# Altium schematic symbol library WS-DISV.SchLib: 31 symbols
Pins are listed as number, name and electrical type; pins without a type are passive.

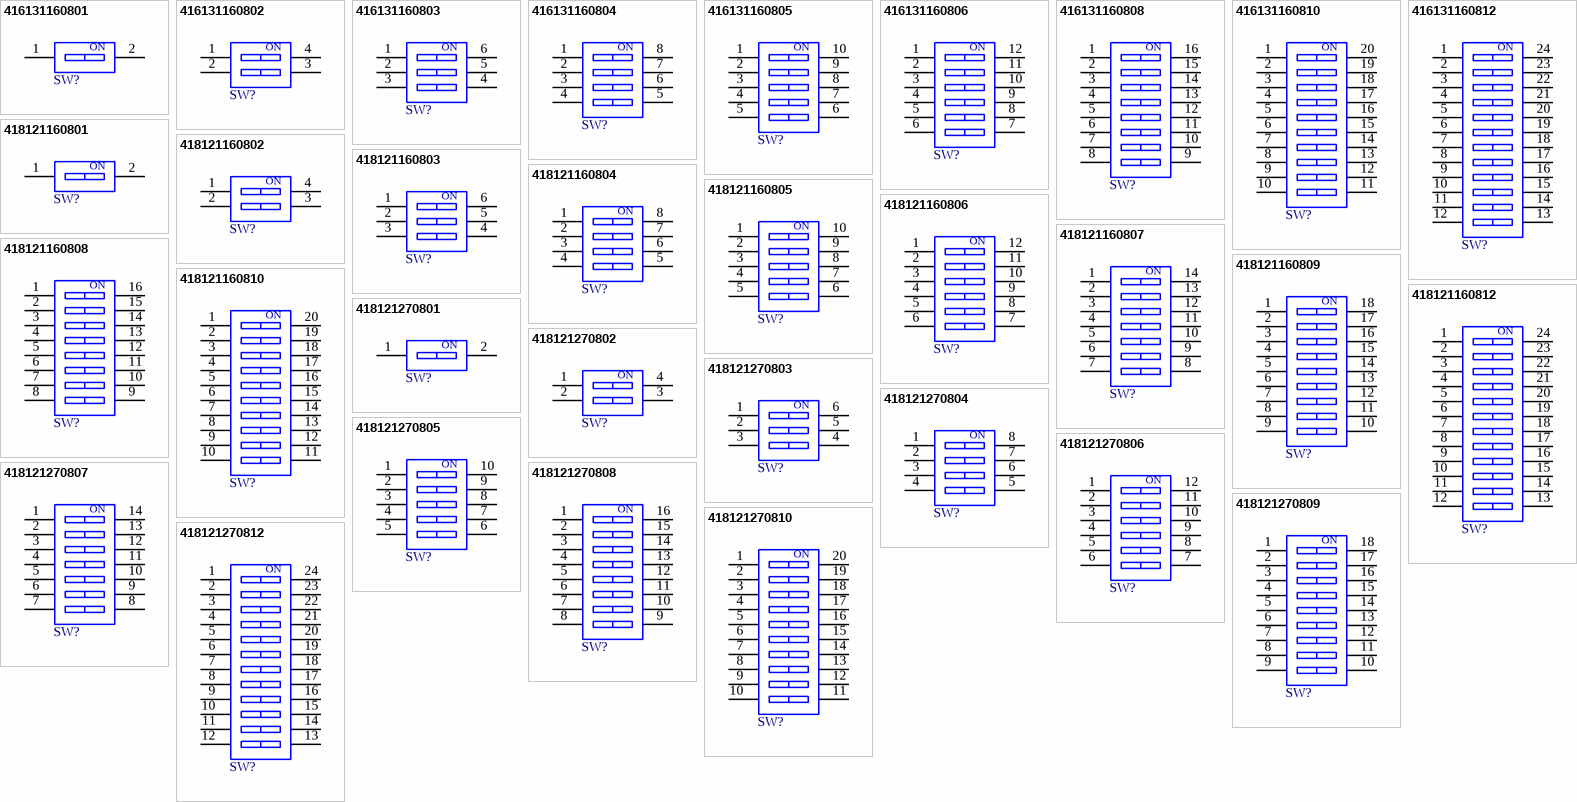
[diagram p0: symbols 416131160801 to 418121270812]

## 416131160801
designator SW?  (value not drawn)
WS-DISV Small Compact SMD Dip Switch, Flat Actuator with Top Tape, pitch 1.27mm, 1p; Manufacturer: Wurth Elektronik; Actuator Type: Flat Type; Operation Force: 500g; Rated Current Non-Switching: 100mA; Rated Current Switching: 25mA; Rated Voltage Non-Switching: 50VDC; Rated Voltage Switching: 24VDC; Number of Poles: 1; ComponentLink1Description: Website Link; ComponentLink1URL: https://www.we-online.com/redexpert/article/416131160801?ad; ComponentLink2Description: Datasheet Link; ComponentLink2URL: https://www.we-online.com/redexpert/spec/416131160801?ad; Manufacturer Part Number: 416131160801; Category: Dip Switches; Match Code: WS-DISV; Mount: Surface Mount; Operating Temperature Max: 85°C; Operating Temperature Min: -40°C; Packaging: Tape and Reel; Contact Material: Copper Alloy; Contact Plating: Gold; Pitch: 1.27mm
footprint 416131160801
pins: 1, 2
text: ON

## 416131160802
designator SW?  (value not drawn)
WS-DISV Small Compact SMD Dip Switch, Flat Actuator with Top Tape, pitch 1.27mm, 2p; Manufacturer: Wurth Elektronik; Actuator Type: Flat Type; Operation Force: 500g; Rated Current Non-Switching: 100mA; Rated Current Switching: 25mA; Rated Voltage Non-Switching: 50VDC; Rated Voltage Switching: 24VDC; Number of Poles: 2; ComponentLink1Description: Website Link; ComponentLink1URL: https://www.we-online.com/redexpert/article/416131160802?ad; ComponentLink2Description: Datasheet Link; ComponentLink2URL: https://www.we-online.com/redexpert/spec/416131160802?ad; Manufacturer Part Number: 416131160802; Category: Dip Switches; Match Code: WS-DISV; Mount: Surface Mount; Operating Temperature Max: 85°C; Operating Temperature Min: -40°C; Packaging: Tape and Reel; Contact Material: Copper Alloy; Contact Plating: Gold; Pitch: 1.27mm
footprint 416131160802
pins: 1, 2, 3, 4
text: ON

## 416131160803
designator SW?  (value not drawn)
WS-DISV Small Compact SMD Dip Switch, Flat Actuator with Top Tape, pitch 1.27mm, 3p; Manufacturer: Wurth Elektronik; Actuator Type: Flat Type; Operation Force: 500g; Rated Current Non-Switching: 100mA; Rated Current Switching: 25mA; Rated Voltage Non-Switching: 50VDC; Rated Voltage Switching: 24VDC; Number of Poles: 3; ComponentLink1Description: Website Link; ComponentLink1URL: https://www.we-online.com/redexpert/article/416131160803?ad; ComponentLink2Description: Datasheet Link; ComponentLink2URL: https://www.we-online.com/redexpert/spec/416131160803?ad; Manufacturer Part Number: 416131160803; Category: Dip Switches; Match Code: WS-DISV; Mount: Surface Mount; Operating Temperature Max: 85°C; Operating Temperature Min: -40°C; Packaging: Tape and Reel; Contact Material: Copper Alloy; Contact Plating: Gold; Pitch: 1.27mm
footprint 416131160803
pins: 1, 2, 3, 4, 5, 6
text: ON

## 416131160804
designator SW?  (value not drawn)
WS-DISV Small Compact SMD Dip Switch, Flat Actuator with Top Tape, pitch 1.27mm, 4p; Manufacturer: Wurth Elektronik; Actuator Type: Flat Type; Operation Force: 500g; Rated Current Non-Switching: 100mA; Rated Current Switching: 25mA; Rated Voltage Non-Switching: 50VDC; Rated Voltage Switching: 24VDC; Number of Poles: 4; ComponentLink1Description: Website Link; ComponentLink1URL: https://www.we-online.com/redexpert/article/416131160804?ad; ComponentLink2Description: Datasheet Link; ComponentLink2URL: https://www.we-online.com/redexpert/spec/416131160804?ad; Manufacturer Part Number: 416131160804; Category: Dip Switches; Match Code: WS-DISV; Mount: Surface Mount; Operating Temperature Max: 85°C; Operating Temperature Min: -40°C; Packaging: Tape and Reel; Contact Material: Copper Alloy; Contact Plating: Gold; Pitch: 1.27mm
footprint 416131160804
pins: 1, 2, 3, 4, 5, 6, 7, 8
text: ON

## 416131160805
designator SW?  (value not drawn)
WS-DISV Small Compact SMD Dip Switch, Flat Actuator with Top Tape, pitch 1.27mm, 5p; Manufacturer: Wurth Elektronik; Actuator Type: Flat Type; Operation Force: 500g; Rated Current Non-Switching: 100mA; Rated Current Switching: 25mA; Rated Voltage Non-Switching: 50VDC; Rated Voltage Switching: 24VDC; Number of Poles: 5; ComponentLink1Description: Website Link; ComponentLink1URL: https://www.we-online.com/redexpert/article/416131160805?ad; ComponentLink2Description: Datasheet Link; ComponentLink2URL: https://www.we-online.com/redexpert/spec/416131160805?ad; Manufacturer Part Number: 416131160805; Category: Dip Switches; Match Code: WS-DISV; Mount: Surface Mount; Operating Temperature Max: 85°C; Operating Temperature Min: -40°C; Packaging: Tape and Reel; Contact Material: Copper Alloy; Contact Plating: Gold; Pitch: 1.27mm
footprint 416131160805
pins: 1, 2, 3, 4, 5, 6, 7, 8, 9, 10
text: ON

## 416131160806
designator SW?  (value not drawn)
WS-DISV Small Compact SMD Dip Switch, Flat Actuator with Top Tape, pitch 1.27mm, 6p; Manufacturer: Wurth Elektronik; Actuator Type: Flat Type; Operation Force: 500g; Rated Current Non-Switching: 100mA; Rated Current Switching: 25mA; Rated Voltage Non-Switching: 50VDC; Rated Voltage Switching: 24VDC; Number of Poles: 6; ComponentLink1Description: Website Link; ComponentLink1URL: https://www.we-online.com/redexpert/article/416131160806?ad; ComponentLink2Description: Datasheet Link; ComponentLink2URL: https://www.we-online.com/redexpert/spec/416131160806?ad; Manufacturer Part Number: 416131160806; Category: Dip Switches; Match Code: WS-DISV; Mount: Surface Mount; Operating Temperature Max: 85°C; Operating Temperature Min: -40°C; Packaging: Tape and Reel; Contact Material: Copper Alloy; Contact Plating: Gold; Pitch: 1.27mm
footprint 416131160806
pins: 1, 2, 3, 4, 5, 6, 7, 8, 9, 10, 11, 12
text: ON

## 416131160808
designator SW?  (value not drawn)
WS-DISV Small Compact SMD Dip Switch, Flat Actuator with Top Tape, pitch 1.27mm, 8p; Manufacturer: Wurth Elektronik; Actuator Type: Flat Type; Operation Force: 500g; Rated Current Non-Switching: 100mA; Rated Current Switching: 25mA; Rated Voltage Non-Switching: 50VDC; Rated Voltage Switching: 24VDC; Number of Poles: 8; ComponentLink1Description: Website Link; ComponentLink1URL: https://www.we-online.com/redexpert/article/416131160808?ad; ComponentLink2Description: Datasheet Link; ComponentLink2URL: https://www.we-online.com/redexpert/spec/416131160808?ad; Manufacturer Part Number: 416131160808; Category: Dip Switches; Match Code: WS-DISV; Mount: Surface Mount; Operating Temperature Max: 85°C; Operating Temperature Min: -40°C; Packaging: Tape and Reel; Contact Material: Copper Alloy; Contact Plating: Gold; Pitch: 1.27mm
footprint 416131160808
pins: 1, 2, 3, 4, 5, 6, 7, 8, 9, 10, 11, 12, 13, 14, 15, 16
text: ON

## 416131160810
designator SW?  (value not drawn)
WS-DISV Small Compact SMD Dip Switch, Flat Actuator with Top Tape, pitch 1.27mm, 10p; Manufacturer: Wurth Elektronik; Actuator Type: Flat Type; Operation Force: 500g; Rated Current Non-Switching: 100mA; Rated Current Switching: 25mA; Rated Voltage Non-Switching: 50VDC; Rated Voltage Switching: 24VDC; Number of Poles: 10; ComponentLink1Description: Website Link; ComponentLink1URL: https://www.we-online.com/redexpert/article/416131160810?ad; ComponentLink2Description: Datasheet Link; ComponentLink2URL: https://www.we-online.com/redexpert/spec/416131160810?ad; Manufacturer Part Number: 416131160810; Category: Dip Switches; Match Code: WS-DISV; Mount: Surface Mount; Operating Temperature Max: 85°C; Operating Temperature Min: -40°C; Packaging: Tape and Reel; Contact Material: Copper Alloy; Contact Plating: Gold; Pitch: 1.27mm
footprint 416131160810
pins: 1, 2, 3, 4, 5, 6, 7, 8, 9, 10, 11, 12, 13, 14, 15, 16, 17, 18, 19, 20
text: ON

## 416131160812
designator SW?  (value not drawn)
WS-DISV Small Compact SMD Dip Switch, Flat Actuator with Top Tape, pitch 1.27mm, 12p; Manufacturer: Wurth Elektronik; Actuator Type: Flat Type; Operation Force: 500g; Rated Current Non-Switching: 100mA; Rated Current Switching: 25mA; Rated Voltage Non-Switching: 50VDC; Rated Voltage Switching: 24VDC; Number of Poles: 12; ComponentLink1Description: Website Link; ComponentLink1URL: https://www.we-online.com/redexpert/article/416131160812?ad; ComponentLink2Description: Datasheet Link; ComponentLink2URL: https://www.we-online.com/redexpert/spec/416131160812?ad; Manufacturer Part Number: 416131160812; Category: Dip Switches; Match Code: WS-DISV; Mount: Surface Mount; Operating Temperature Max: 85°C; Operating Temperature Min: -40°C; Packaging: Tape and Reel; Contact Material: Copper Alloy; Contact Plating: Gold; Pitch: 1.27mm
footprint 416131160812
pins: 1, 2, 3, 4, 5, 6, 7, 8, 9, 10, 11, 12, 13, 14, 15, 16, 17, 18, 19, 20, 21, 22, 23, 24
text: ON

## 418121160801
designator SW?  (value not drawn)
WS-DISV Small Compact SMD Dip Switch, Flat Actuator with Top Tape, pitch 2.54mm, 1p; Manufacturer: Wurth Elektronik; Actuator Type: Flat Type; Operation Force: 600g; Rated Current Non-Switching: 100mA; Rated Current Switching: 25mA; Rated Voltage Non-Switching: 50VDC; Rated Voltage Switching: 24VDC; Number of Poles: 1; ComponentLink1Description: Website Link; ComponentLink1URL: https://www.we-online.com/redexpert/article/418121160801?ad; ComponentLink2Description: Datasheet Link; ComponentLink2URL: https://www.we-online.com/redexpert/spec/418121160801?ad; Manufacturer Part Number: 418121160801; Category: Dip Switches; Match Code: WS-DISV; Mount: Surface Mount; Operating Temperature Max: 85°C; Operating Temperature Min: -40°C; Packaging: Tape and Reel; Contact Material: Copper Alloy; Contact Plating: Gold; Pitch: 2.54mm
footprint 418121160801
pins: 1, 2
text: ON

## 418121160802
designator SW?  (value not drawn)
WS-DISV Small Compact SMD Dip Switch, Flat Actuator with Top Tape, pitch 2.54mm, 2p; Manufacturer: Wurth Elektronik; Actuator Type: Flat Type; Operation Force: 600g; Rated Current Non-Switching: 100mA; Rated Current Switching: 25mA; Rated Voltage Non-Switching: 50VDC; Rated Voltage Switching: 24VDC; Number of Poles: 2; ComponentLink1Description: Website Link; ComponentLink1URL: https://www.we-online.com/redexpert/article/418121160802?ad; ComponentLink2Description: Datasheet Link; ComponentLink2URL: https://www.we-online.com/redexpert/spec/418121160802?ad; Manufacturer Part Number: 418121160802; Category: Dip Switches; Match Code: WS-DISV; Mount: Surface Mount; Operating Temperature Max: 85°C; Operating Temperature Min: -40°C; Packaging: Tape and Reel; Contact Material: Copper Alloy; Contact Plating: Gold; Pitch: 2.54mm
footprint 418121160802
pins: 1, 2, 3, 4
text: ON

## 418121160803
designator SW?  (value not drawn)
WS-DISV Small Compact SMD Dip Switch, Flat Actuator with Top Tape, pitch 2.54mm, 3p; Manufacturer: Wurth Elektronik; Actuator Type: Flat Type; Operation Force: 600g; Rated Current Non-Switching: 100mA; Rated Current Switching: 25mA; Rated Voltage Non-Switching: 50VDC; Rated Voltage Switching: 24VDC; Number of Poles: 3; ComponentLink1Description: Website Link; ComponentLink1URL: https://www.we-online.com/redexpert/article/418121160803?ad; ComponentLink2Description: Datasheet Link; ComponentLink2URL: https://www.we-online.com/redexpert/spec/418121160803?ad; Manufacturer Part Number: 418121160803; Category: Dip Switches; Match Code: WS-DISV; Mount: Surface Mount; Operating Temperature Max: 85°C; Operating Temperature Min: -40°C; Packaging: Tape and Reel; Contact Material: Copper Alloy; Contact Plating: Gold; Pitch: 2.54mm
footprint 418121160803
pins: 1, 2, 3, 4, 5, 6
text: ON

## 418121160804
designator SW?  (value not drawn)
WS-DISV Small Compact SMD Dip Switch, Flat Actuator with Top Tape, pitch 2.54mm, 4p; Manufacturer: Wurth Elektronik; Actuator Type: Flat Type; Operation Force: 600g; Rated Current Non-Switching: 100mA; Rated Current Switching: 25mA; Rated Voltage Non-Switching: 50VDC; Rated Voltage Switching: 24VDC; Number of Poles: 4; ComponentLink1Description: Website Link; ComponentLink1URL: https://www.we-online.com/redexpert/article/418121160804?ad; ComponentLink2Description: Datasheet Link; ComponentLink2URL: https://www.we-online.com/redexpert/spec/418121160804?ad; Manufacturer Part Number: 418121160804; Category: Dip Switches; Match Code: WS-DISV; Mount: Surface Mount; Operating Temperature Max: 85°C; Operating Temperature Min: -40°C; Packaging: Tape and Reel; Contact Material: Copper Alloy; Contact Plating: Gold; Pitch: 2.54mm
footprint 418121160804
pins: 1, 2, 3, 4, 5, 6, 7, 8
text: ON

## 418121160805
designator SW?  (value not drawn)
WS-DISV Small Compact SMD Dip Switch, Flat Actuator with Top Tape, pitch 2.54mm, 5p; Manufacturer: Wurth Elektronik; Actuator Type: Flat Type; Operation Force: 600g; Rated Current Non-Switching: 100mA; Rated Current Switching: 25mA; Rated Voltage Non-Switching: 50VDC; Rated Voltage Switching: 24VDC; Number of Poles: 5; ComponentLink1Description: Website Link; ComponentLink1URL: https://www.we-online.com/redexpert/article/418121160805?ad; ComponentLink2Description: Datasheet Link; ComponentLink2URL: https://www.we-online.com/redexpert/spec/418121160805?ad; Manufacturer Part Number: 418121160805; Category: Dip Switches; Match Code: WS-DISV; Mount: Surface Mount; Operating Temperature Max: 85°C; Operating Temperature Min: -40°C; Packaging: Tape and Reel; Contact Material: Copper Alloy; Contact Plating: Gold; Pitch: 2.54mm
footprint 418121160805
pins: 1, 2, 3, 4, 5, 6, 7, 8, 9, 10
text: ON

## 418121160806
designator SW?  (value not drawn)
WS-DISV Small Compact SMD Dip Switch, Flat Actuator with Top Tape, pitch 2.54mm, 6p; Manufacturer: Wurth Elektronik; Actuator Type: Flat Type; Operation Force: 600g; Rated Current Non-Switching: 100mA; Rated Current Switching: 25mA; Rated Voltage Non-Switching: 50VDC; Rated Voltage Switching: 24VDC; Number of Poles: 6; ComponentLink1Description: Website Link; ComponentLink1URL: https://www.we-online.com/redexpert/article/418121160806?ad; ComponentLink2Description: Datasheet Link; ComponentLink2URL: https://www.we-online.com/redexpert/spec/418121160806?ad; Manufacturer Part Number: 418121160806; Category: Dip Switches; Match Code: WS-DISV; Mount: Surface Mount; Operating Temperature Max: 85°C; Operating Temperature Min: -40°C; Packaging: Tape and Reel; Contact Material: Copper Alloy; Contact Plating: Gold; Pitch: 2.54mm
footprint 418121160806
pins: 1, 2, 3, 4, 5, 6, 7, 8, 9, 10, 11, 12
text: ON

## 418121160807
designator SW?  (value not drawn)
WS-DISV Small Compact SMD Dip Switch, Flat Actuator with Top Tape, pitch 2.54mm, 7p; Manufacturer: Wurth Elektronik; Actuator Type: Flat Type; Operation Force: 600g; Rated Current Non-Switching: 100mA; Rated Current Switching: 25mA; Rated Voltage Non-Switching: 50VDC; Rated Voltage Switching: 24VDC; Number of Poles: 7; ComponentLink1Description: Website Link; ComponentLink1URL: https://www.we-online.com/redexpert/article/418121160807?ad; ComponentLink2Description: Datasheet Link; ComponentLink2URL: https://www.we-online.com/redexpert/spec/418121160807?ad; Manufacturer Part Number: 418121160807; Category: Dip Switches; Match Code: WS-DISV; Mount: Surface Mount; Operating Temperature Max: 85°C; Operating Temperature Min: -40°C; Packaging: Tape and Reel; Contact Material: Copper Alloy; Contact Plating: Gold; Pitch: 2.54mm
footprint 418121160807
pins: 1, 2, 3, 4, 5, 6, 7, 8, 9, 10, 11, 12, 13, 14
text: ON

## 418121160808
designator SW?  (value not drawn)
WS-DISV Small Compact SMD Dip Switch, Flat Actuator with Top Tape, pitch 2.54mm, 8p; Manufacturer: Wurth Elektronik; Actuator Type: Flat Type; Operation Force: 600g; Rated Current Non-Switching: 100mA; Rated Current Switching: 25mA; Rated Voltage Non-Switching: 50VDC; Rated Voltage Switching: 24VDC; Number of Poles: 8; ComponentLink1Description: Website Link; ComponentLink1URL: https://www.we-online.com/redexpert/article/418121160808?ad; ComponentLink2Description: Datasheet Link; ComponentLink2URL: https://www.we-online.com/redexpert/spec/418121160808?ad; Manufacturer Part Number: 418121160808; Category: Dip Switches; Match Code: WS-DISV; Mount: Surface Mount; Operating Temperature Max: 85°C; Operating Temperature Min: -40°C; Packaging: Tape and Reel; Contact Material: Copper Alloy; Contact Plating: Gold; Pitch: 2.54mm
footprint 418121160808
pins: 1, 2, 3, 4, 5, 6, 7, 8, 9, 10, 11, 12, 13, 14, 15, 16
text: ON

## 418121160809
designator SW?  (value not drawn)
WS-DISV Small Compact SMD Dip Switch, Flat Actuator with Top Tape, pitch 2.54mm, 9p; Manufacturer: Wurth Elektronik; Actuator Type: Flat Type; Operation Force: 600g; Rated Current Non-Switching: 100mA; Rated Current Switching: 25mA; Rated Voltage Non-Switching: 50VDC; Rated Voltage Switching: 24VDC; Number of Poles: 9; ComponentLink1Description: Website Link; ComponentLink1URL: https://www.we-online.com/redexpert/article/418121160809?ad; ComponentLink2Description: Datasheet Link; ComponentLink2URL: https://www.we-online.com/redexpert/spec/418121160809?ad; Manufacturer Part Number: 418121160809; Category: Dip Switches; Match Code: WS-DISV; Mount: Surface Mount; Operating Temperature Max: 85°C; Operating Temperature Min: -40°C; Packaging: Tape and Reel; Contact Material: Copper Alloy; Contact Plating: Gold; Pitch: 2.54mm
footprint 418121160809
pins: 1, 2, 3, 4, 5, 6, 7, 8, 9, 10, 11, 12, 13, 14, 15, 16, 17, 18
text: ON

## 418121160810
designator SW?  (value not drawn)
WS-DISV Small Compact SMD Dip Switch, Flat Actuator with Top Tape, pitch 2.54mm, 10p; Manufacturer: Wurth Elektronik; Actuator Type: Flat Type; Operation Force: 600g; Rated Current Non-Switching: 100mA; Rated Current Switching: 25mA; Rated Voltage Non-Switching: 50VDC; Rated Voltage Switching: 24VDC; Number of Poles: 10; ComponentLink1Description: Website Link; ComponentLink1URL: https://www.we-online.com/redexpert/article/418121160810?ad; ComponentLink2Description: Datasheet Link; ComponentLink2URL: https://www.we-online.com/redexpert/spec/418121160810?ad; Manufacturer Part Number: 418121160810; Category: Dip Switches; Match Code: WS-DISV; Mount: Surface Mount; Operating Temperature Max: 85°C; Operating Temperature Min: -40°C; Packaging: Tape and Reel; Contact Material: Copper Alloy; Contact Plating: Gold; Pitch: 2.54mm
footprint 418121160810
pins: 1, 2, 3, 4, 5, 6, 7, 8, 9, 10, 11, 12, 13, 14, 15, 16, 17, 18, 19, 20
text: ON

## 418121160812
designator SW?  (value not drawn)
WS-DISV Small Compact SMD Dip Switch, Flat Actuator with Top Tape, pitch 2.54mm, 12p; Manufacturer: Wurth Elektronik; Actuator Type: Flat Type; Operation Force: 600g; Rated Current Non-Switching: 100mA; Rated Current Switching: 25mA; Rated Voltage Non-Switching: 50VDC; Rated Voltage Switching: 24VDC; Number of Poles: 12; ComponentLink1Description: Website Link; ComponentLink1URL: https://www.we-online.com/redexpert/article/418121160812?ad; ComponentLink2Description: Datasheet Link; ComponentLink2URL: https://www.we-online.com/redexpert/spec/418121160812?ad; Manufacturer Part Number: 418121160812; Category: Dip Switches; Match Code: WS-DISV; Mount: Surface Mount; Operating Temperature Max: 85°C; Operating Temperature Min: -40°C; Packaging: Tape and Reel; Contact Material: Copper Alloy; Contact Plating: Gold; Pitch: 2.54mm
footprint 418121160812
pins: 1, 2, 3, 4, 5, 6, 7, 8, 9, 10, 11, 12, 13, 14, 15, 16, 17, 18, 19, 20, 21, 22, 23, 24
text: ON

## 418121270801
designator SW?  (value not drawn)
WS-DISV Small Compact SMT Dip Switch, Raised Actuator, pitch 2.54mm, 1p; Manufacturer: Wurth Elektronik; Actuator Type: Raise Type; Operation Force: 600g; Rated Current Non-Switching: 100mA; Rated Current Switching: 25mA; Rated Voltage Non-Switching: 50VDC; Rated Voltage Switching: 24VDC; Number of Poles: 1; ComponentLink1Description: Website Link; ComponentLink1URL: https://www.we-online.com/redexpert/article/418121270801?ad; ComponentLink2Description: Datasheet Link; ComponentLink2URL: https://www.we-online.com/redexpert/spec/418121270801?ad; Manufacturer Part Number: 418121270801; Category: Dip Switches; Match Code: WS-DISV; Mount: Surface Mount; Operating Temperature Max: 85°C; Operating Temperature Min: -40°C; Packaging: Tape and Reel; Contact Material: Copper Alloy; Contact Plating: Gold; Pitch: 2.54mm
footprint 418121270801
pins: 1, 2
text: ON

## 418121270802
designator SW?  (value not drawn)
WS-DISV Small Compact SMT Dip Switch, Raised Actuator, pitch 2.54mm, 2p; Manufacturer: Wurth Elektronik; Actuator Type: Raise Type; Operation Force: 600g; Rated Current Non-Switching: 100mA; Rated Current Switching: 25mA; Rated Voltage Non-Switching: 50VDC; Rated Voltage Switching: 24VDC; Number of Poles: 2; ComponentLink1Description: Website Link; ComponentLink1URL: https://www.we-online.com/redexpert/article/418121270802?ad; ComponentLink2Description: Datasheet Link; ComponentLink2URL: https://www.we-online.com/redexpert/spec/418121270802?ad; Manufacturer Part Number: 418121270802; Category: Dip Switches; Match Code: WS-DISV; Mount: Surface Mount; Operating Temperature Max: 85°C; Operating Temperature Min: -40°C; Packaging: Tape and Reel; Contact Material: Copper Alloy; Contact Plating: Gold; Pitch: 2.54mm
footprint 418121270802
pins: 1, 2, 3, 4
text: ON

## 418121270803
designator SW?  (value not drawn)
WS-DISV Small Compact SMT Dip Switch, Raised Actuator, pitch 2.54mm, 3p; Manufacturer: Wurth Elektronik; Actuator Type: Raise Type; Operation Force: 600g; Rated Current Non-Switching: 100mA; Rated Current Switching: 25mA; Rated Voltage Non-Switching: 50VDC; Rated Voltage Switching: 24VDC; Number of Poles: 3; ComponentLink1Description: Website Link; ComponentLink1URL: https://www.we-online.com/redexpert/article/418121270803?ad; ComponentLink2Description: Datasheet Link; ComponentLink2URL: https://www.we-online.com/redexpert/spec/418121270803?ad; Manufacturer Part Number: 418121270803; Category: Dip Switches; Match Code: WS-DISV; Mount: Surface Mount; Operating Temperature Max: 85°C; Operating Temperature Min: -40°C; Packaging: Tape and Reel; Contact Material: Copper Alloy; Contact Plating: Gold; Pitch: 2.54mm
footprint 418121270803
pins: 1, 2, 3, 4, 5, 6
text: ON

## 418121270804
designator SW?  (value not drawn)
WS-DISV Small Compact SMT Dip Switch, Raised Actuator, pitch 2.54mm, 4p; Manufacturer: Wurth Elektronik; Actuator Type: Raise Type; Operation Force: 600g; Rated Current Non-Switching: 100mA; Rated Current Switching: 25mA; Rated Voltage Non-Switching: 50VDC; Rated Voltage Switching: 24VDC; Number of Poles: 4; ComponentLink1Description: Website Link; ComponentLink1URL: https://www.we-online.com/redexpert/article/418121270804?ad; ComponentLink2Description: Datasheet Link; ComponentLink2URL: https://www.we-online.com/redexpert/spec/418121270804?ad; Manufacturer Part Number: 418121270804; Category: Dip Switches; Match Code: WS-DISV; Mount: Surface Mount; Operating Temperature Max: 85°C; Operating Temperature Min: -40°C; Packaging: Tape and Reel; Contact Material: Copper Alloy; Contact Plating: Gold; Pitch: 2.54mm
footprint 418121270804
pins: 1, 2, 3, 4, 5, 6, 7, 8
text: ON

## 418121270805
designator SW?  (value not drawn)
WS-DISV Small Compact SMT Dip Switch, Raised Actuator, pitch 2.54mm, 5p; Manufacturer: Wurth Elektronik; Actuator Type: Raise Type; Operation Force: 600g; Rated Current Non-Switching: 100mA; Rated Current Switching: 25mA; Rated Voltage Non-Switching: 50VDC; Rated Voltage Switching: 24VDC; Number of Poles: 5; ComponentLink1Description: Website Link; ComponentLink1URL: https://www.we-online.com/redexpert/article/418121270805?ad; ComponentLink2Description: Datasheet Link; ComponentLink2URL: https://www.we-online.com/redexpert/spec/418121270805?ad; Manufacturer Part Number: 418121270805; Category: Dip Switches; Match Code: WS-DISV; Mount: Surface Mount; Operating Temperature Max: 85°C; Operating Temperature Min: -40°C; Packaging: Tape and Reel; Contact Material: Copper Alloy; Contact Plating: Gold; Pitch: 2.54mm
footprint 418121270805
pins: 1, 2, 3, 4, 5, 6, 7, 8, 9, 10
text: ON

## 418121270806
designator SW?  (value not drawn)
WS-DISV Small Compact SMT Dip Switch, Raised Actuator, pitch 2.54mm, 6p; Manufacturer: Wurth Elektronik; Actuator Type: Raise Type; Operation Force: 600g; Rated Current Non-Switching: 100mA; Rated Current Switching: 25mA; Rated Voltage Non-Switching: 50VDC; Rated Voltage Switching: 24VDC; Number of Poles: 6; ComponentLink1Description: Website Link; ComponentLink1URL: https://www.we-online.com/redexpert/article/418121270806?ad; ComponentLink2Description: Datasheet Link; ComponentLink2URL: https://www.we-online.com/redexpert/spec/418121270806?ad; Manufacturer Part Number: 418121270806; Category: Dip Switches; Match Code: WS-DISV; Mount: Surface Mount; Operating Temperature Max: 85°C; Operating Temperature Min: -40°C; Packaging: Tape and Reel; Contact Material: Copper Alloy; Contact Plating: Gold; Pitch: 2.54mm
footprint 418121270806
pins: 1, 2, 3, 4, 5, 6, 7, 8, 9, 10, 11, 12
text: ON

## 418121270807
designator SW?  (value not drawn)
WS-DISV Small Compact SMT Dip Switch, Raised Actuator, pitch 2.54mm, 7p; Manufacturer: Wurth Elektronik; Actuator Type: Raise Type; Operation Force: 600g; Rated Current Non-Switching: 100mA; Rated Current Switching: 25mA; Rated Voltage Non-Switching: 50VDC; Rated Voltage Switching: 24VDC; Number of Poles: 7; ComponentLink1Description: Website Link; ComponentLink1URL: https://www.we-online.com/redexpert/article/418121270807?ad; ComponentLink2Description: Datasheet Link; ComponentLink2URL: https://www.we-online.com/redexpert/spec/418121270807?ad; Manufacturer Part Number: 418121270807; Category: Dip Switches; Match Code: WS-DISV; Mount: Surface Mount; Operating Temperature Max: 85°C; Operating Temperature Min: -40°C; Packaging: Tape and Reel; Contact Material: Copper Alloy; Contact Plating: Gold; Pitch: 2.54mm
footprint 418121270807
pins: 1, 2, 3, 4, 5, 6, 7, 8, 9, 10, 11, 12, 13, 14
text: ON

## 418121270808
designator SW?  (value not drawn)
WS-DISV Small Compact SMT Dip Switch, Raised Actuator, pitch 2.54mm, 8p; Manufacturer: Wurth Elektronik; Actuator Type: Raise Type; Operation Force: 600g; Rated Current Non-Switching: 100mA; Rated Current Switching: 25mA; Rated Voltage Non-Switching: 50VDC; Rated Voltage Switching: 24VDC; Number of Poles: 8; ComponentLink1Description: Website Link; ComponentLink1URL: https://www.we-online.com/redexpert/article/418121270808?ad; ComponentLink2Description: Datasheet Link; ComponentLink2URL: https://www.we-online.com/redexpert/spec/418121270808?ad; Manufacturer Part Number: 418121270808; Category: Dip Switches; Match Code: WS-DISV; Mount: Surface Mount; Operating Temperature Max: 85°C; Operating Temperature Min: -40°C; Packaging: Tape and Reel; Contact Material: Copper Alloy; Contact Plating: Gold; Pitch: 2.54mm
footprint 418121270808
pins: 1, 2, 3, 4, 5, 6, 7, 8, 9, 10, 11, 12, 13, 14, 15, 16
text: ON

## 418121270809
designator SW?  (value not drawn)
WS-DISV Small Compact SMT Dip Switch, Raised Actuator, pitch 2.54mm, 9p; Manufacturer: Wurth Elektronik; Actuator Type: Raise Type; Operation Force: 600g; Rated Current Non-Switching: 100mA; Rated Current Switching: 25mA; Rated Voltage Non-Switching: 50VDC; Rated Voltage Switching: 24VDC; Number of Poles: 9; ComponentLink1Description: Website Link; ComponentLink1URL: https://www.we-online.com/redexpert/article/418121270809?ad; ComponentLink2Description: Datasheet Link; ComponentLink2URL: https://www.we-online.com/redexpert/spec/418121270809?ad; Manufacturer Part Number: 418121270809; Category: Dip Switches; Match Code: WS-DISV; Mount: Surface Mount; Operating Temperature Max: 85°C; Operating Temperature Min: -40°C; Packaging: Tape and Reel; Contact Material: Copper Alloy; Contact Plating: Gold; Pitch: 2.54mm
footprint 418121270809
pins: 1, 2, 3, 4, 5, 6, 7, 8, 9, 10, 11, 12, 13, 14, 15, 16, 17, 18
text: ON

## 418121270810
designator SW?  (value not drawn)
WS-DISV Small Compact SMT Dip Switch, Raised Actuator, pitch 2.54mm, 10p; Manufacturer: Wurth Elektronik; Actuator Type: Raise Type; Operation Force: 600g; Rated Current Non-Switching: 100mA; Rated Current Switching: 25mA; Rated Voltage Non-Switching: 50VDC; Rated Voltage Switching: 24VDC; Number of Poles: 10; ComponentLink1Description: Website Link; ComponentLink1URL: https://www.we-online.com/redexpert/article/418121270810?ad; ComponentLink2Description: Datasheet Link; ComponentLink2URL: https://www.we-online.com/redexpert/spec/418121270810?ad; Manufacturer Part Number: 418121270810; Category: Dip Switches; Match Code: WS-DISV; Mount: Surface Mount; Operating Temperature Max: 85°C; Operating Temperature Min: -40°C; Packaging: Tape and Reel; Contact Material: Copper Alloy; Contact Plating: Gold; Pitch: 2.54mm
footprint 418121270810
pins: 1, 2, 3, 4, 5, 6, 7, 8, 9, 10, 11, 12, 13, 14, 15, 16, 17, 18, 19, 20
text: ON

## 418121270812
designator SW?  (value not drawn)
WS-DISV Small Compact SMT Dip Switch, Raised Actuator, pitch 2.54mm, 12p; Manufacturer: Wurth Elektronik; Actuator Type: Raise Type; Operation Force: 600g; Rated Current Non-Switching: 100mA; Rated Current Switching: 25mA; Rated Voltage Non-Switching: 50VDC; Rated Voltage Switching: 24VDC; Number of Poles: 12; ComponentLink1Description: Website Link; ComponentLink1URL: https://www.we-online.com/redexpert/article/418121270812?ad; ComponentLink2Description: Datasheet Link; ComponentLink2URL: https://www.we-online.com/redexpert/spec/418121270812?ad; Manufacturer Part Number: 418121270812; Category: Dip Switches; Match Code: WS-DISV; Mount: Surface Mount; Operating Temperature Max: 85°C; Operating Temperature Min: -40°C; Packaging: Tape and Reel; Contact Material: Copper Alloy; Contact Plating: Gold; Pitch: 2.54mm
footprint 418121270812
pins: 1, 2, 3, 4, 5, 6, 7, 8, 9, 10, 11, 12, 13, 14, 15, 16, 17, 18, 19, 20, 21, 22, 23, 24
text: ON